# EAGLE library part DAVID_SPEZIAL_HEADER_2X5_1.27 (library sensortag_motherboard_v004)
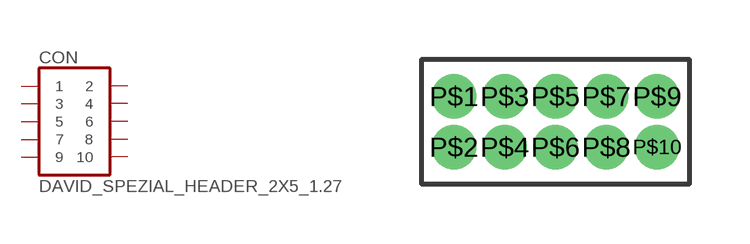
[diagram p2: symbol with the pads of DAVID_SPEZIAL_HEADER_2X5_1.27; footprint DAVID_SPEZIAL_HEADER_2X5_1.27]

Designator prefix CON

## DAVID_SPEZIAL_HEADER_2X5_1.27  [DAVID_SPEZIAL_HEADER_2X5_1.27]
P$1  1
P$2  2
P$3  3
P$4  4
P$5  5
P$6  6
P$7  7
P$8  8
P$9  9
P$10  10

## Footprint DAVID_SPEZIAL_HEADER_2X5_1.27 (pad centres in mm)
drill 0.6 pad 1.1: P$1 -2.54,0.635; P$2 -2.54,-0.635; P$3 -1.27,0.635; P$4 -1.27,-0.635; P$5 0,0.635; P$6 0,-0.635; P$7 1.27,0.635; P$8 1.27,-0.635; P$9 2.54,0.635; P$10 2.54,-0.635